# Altium schematic symbol library ABM8-40.000MHZ-10-1-U-T.SchLib: 1 symbol
Pins are listed as number, name and electrical type; pins without a type are passive.

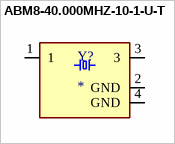
[diagram p0: symbol ABM8-40.000MHZ-10-1-U-T]

## ABM8-40.000MHZ-10-1-U-T
designator Y?
Crystal 20MHz Ã‚Â±20ppm (Tol) Ã‚Â±30ppm (Stability) 18pF FUND 80Ohm 4-Pin Mini-CSMD T/R; MP: ABM8-40.000MHZ-10-1-U-T; MF: {'manufacturer': u'Abracon'}; Availability: Unavailable; Value: *; Package: None; Price: None
footprint OSCSC320X250X100N
pins: 1, 2 GND (power), 3, 4 GND (power)